# EAGLE library part ASPIRIN (library joby_robotics)
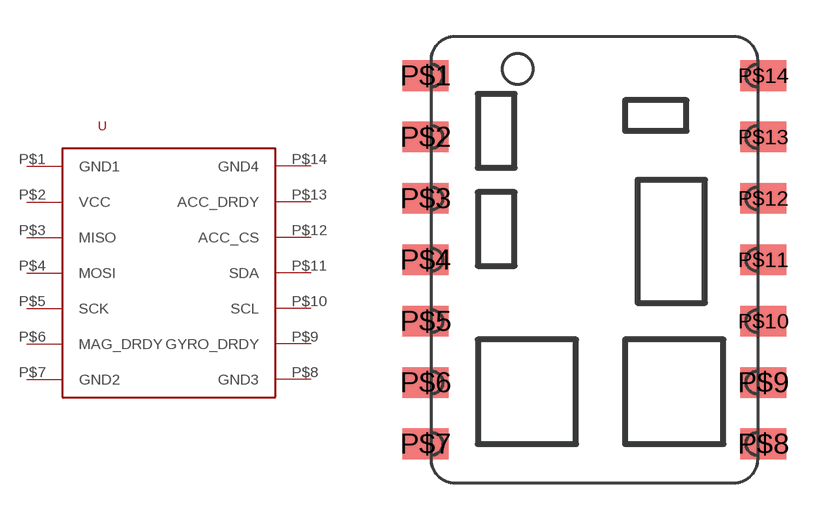
[diagram p0: symbol with the pads of ASPIRIN_1; footprint ASPIRIN_1]

Designator prefix -

## ASPIRIN  [ASPIRIN_1]
P$1  GND1
P$2  VCC
P$3  MISO
P$4  MOSI
P$5  SCK
P$6  MAG_DRDY
P$7  GND2
P$8  GND3
P$9  GYRO_DRDY
P$10  SCL
P$11  SDA
P$12  ACC_CS
P$13  ACC_DRDY
P$14  GND4

## Footprint ASPIRIN_1 (pad centres in mm)
smd 1.905 x 1.27: P$1 -6.985,7.62; P$2 -6.985,5.08; P$3 -6.985,2.54; P$4 -6.985,0; P$5 -6.985,-2.54; P$6 -6.985,-5.08; P$7 -6.985,-7.62; P$8 6.985,-7.62; P$9 6.985,-5.08; P$10 6.985,-2.54; P$11 6.985,0; P$12 6.985,2.54; P$13 6.985,5.08; P$14 6.985,7.62